# EAGLE library part DF40C-100DS-0.4V(51)_100PINCONNECTOR (library Joule Expansion Board)
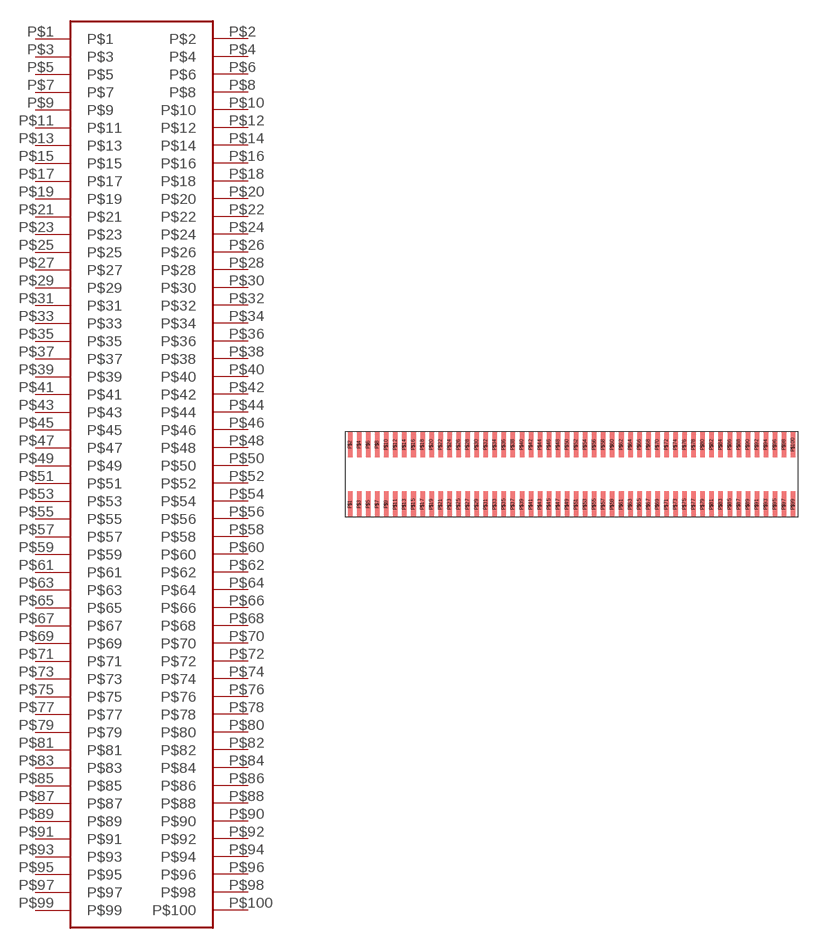
[diagram p17: symbol with the pads of 100-DF40; footprint 100-DF40]

Designator prefix -

## DF40C-100DS-0.4V(51)_100PINCONNECTOR  [100-DF40]
P$1  P$1
P$2  P$2
P$3  P$3
P$4  P$4
P$5  P$5
P$6  P$6
P$7  P$7
P$8  P$8
P$9  P$9
P$10  P$10
P$11  P$11
P$12  P$12
P$13  P$13
P$14  P$14
P$15  P$15
P$16  P$16
P$17  P$17
P$18  P$18
P$19  P$19
P$20  P$20
P$21  P$21
P$22  P$22
P$23  P$23
P$24  P$24
P$25  P$25
P$26  P$26
P$27  P$27
P$28  P$28
P$29  P$29
P$30  P$30
P$31  P$31
P$32  P$32
P$33  P$33
P$34  P$34
P$35  P$35
P$36  P$36
P$37  P$37
P$38  P$38
P$39  P$39
P$40  P$40
P$41  P$41
P$42  P$42
P$43  P$43
P$44  P$44
P$45  P$45
P$46  P$46
P$47  P$47
P$48  P$48
P$49  P$49
P$50  P$50
P$51  P$51
P$52  P$52
P$53  P$53
P$54  P$54
P$55  P$55
P$56  P$56
P$57  P$57
P$58  P$58
P$59  P$59
P$60  P$60
P$61  P$61
P$62  P$62
P$63  P$63
P$64  P$64
P$65  P$65
P$66  P$66
P$67  P$67
P$68  P$68
P$69  P$69
P$70  P$70
P$71  P$71
P$72  P$72
P$73  P$73
P$74  P$74
P$75  P$75
P$76  P$76
P$77  P$77
P$78  P$78
P$79  P$79
P$80  P$80
P$81  P$81
P$82  P$82
P$83  P$83
P$84  P$84
P$85  P$85
P$86  P$86
P$87  P$87
P$88  P$88
P$89  P$89
P$90  P$90
P$91  P$91
P$92  P$92
P$93  P$93
P$94  P$94
P$95  P$95
P$96  P$96
P$97  P$97
P$98  P$98
P$99  P$99
P$100  P$100

## Footprint 100-DF40 (pad centres in mm)
smd 0.2 x 1.14: P$1 -9.8,-1.32; P$2 -9.8,1.32; P$3 -9.4,-1.32; P$4 -9.4,1.32; P$5 -9,-1.32; P$6 -9,1.32; P$7 -8.6,-1.32; P$8 -8.6,1.32; P$9 -8.2,-1.32; P$10 -8.2,1.32; P$11 -7.8,-1.32; P$12 -7.8,1.32; P$13 -7.4,-1.32; P$14 -7.4,1.32; P$15 -7,-1.32; P$16 -7,1.32; P$17 -6.6,-1.32; P$18 -6.6,1.32; P$19 -6.2,-1.32; P$20 -6.2,1.32; P$21 -5.8,-1.32; P$22 -5.8,1.32; P$23 -5.4,-1.32; P$24 -5.4,1.32; P$25 -5,-1.32; P$26 -5,1.32; P$27 -4.6,-1.32; P$28 -4.6,1.32; P$29 -4.2,-1.32; P$30 -4.2,1.32; P$31 -3.8,-1.32; P$32 -3.8,1.32; P$33 -3.4,-1.32; P$34 -3.4,1.32; P$35 -3,-1.32; P$36 -3,1.32; P$37 -2.6,-1.32; P$38 -2.6,1.32; P$39 -2.2,-1.32; P$40 -2.2,1.32; P$41 -1.8,-1.32; P$42 -1.8,1.32; P$43 -1.4,-1.32; P$44 -1.4,1.32; P$45 -1,-1.32; P$46 -1,1.32; P$47 -0.6,-1.32; P$48 -0.6,1.32; P$49 -0.2,-1.32; P$50 -0.2,1.32; P$51 0.2,-1.32; P$52 0.2,1.32; P$53 0.6,-1.32; P$54 0.6,1.32; P$55 1,-1.32; P$56 1,1.32; P$57 1.4,-1.32; P$58 1.4,1.32; P$59 1.8,-1.32; P$60 1.8,1.32; P$61 2.2,-1.32; P$62 2.2,1.32; P$63 2.6,-1.32; P$64 2.6,1.32; P$65 3,-1.32; P$66 3,1.32; P$67 3.4,-1.32; P$68 3.4,1.32; P$69 3.8,-1.32; P$70 3.8,1.32; P$71 4.2,-1.32; P$72 4.2,1.32; P$73 4.6,-1.32; P$74 4.6,1.32; P$75 5,-1.32; P$76 5,1.32; P$77 5.4,-1.32; P$78 5.4,1.32; P$79 5.8,-1.32; P$80 5.8,1.32; P$81 6.2,-1.32; P$82 6.2,1.32; P$83 6.6,-1.32; P$84 6.6,1.32; P$85 7,-1.32; P$86 7,1.32; P$87 7.4,-1.32; P$88 7.4,1.32; P$89 7.8,-1.32; P$90 7.8,1.32; P$91 8.2,-1.32; P$92 8.2,1.32; P$93 8.6,-1.32; P$94 8.6,1.32; P$95 9,-1.32; P$96 9,1.32; P$97 9.4,-1.32; P$98 9.4,1.32; P$99 9.8,-1.32; P$100 9.8,1.32